# EAGLE library part TLP525G-2 (library bodger)
Dual triac optocoupler
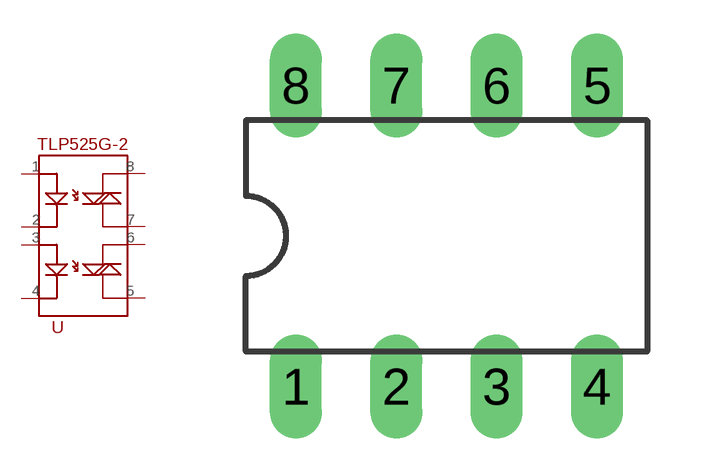
[diagram p14: symbol with the pads of DIL08; footprint DIL08]

Designator prefix -

## TLP525G-2  [DIL08]
1  A1
2  K1
3  A2
4  K2
5  MT22
6  MT21
7  MT12
8  MT11

## Footprint DIL08 (pad centres in mm)
Dual In Line Package
drill 0.813 long: 1 -3.81,-3.81; 2 -1.27,-3.81; 3 1.27,-3.81; 4 3.81,-3.81; 5 3.81,3.81; 6 1.27,3.81; 7 -1.27,3.81; 8 -3.81,3.81